# Altium schematic symbol library Atmega328p.SchLib: 13 symbols
Pins are listed as number, name and electrical type; pins without a type are passive.

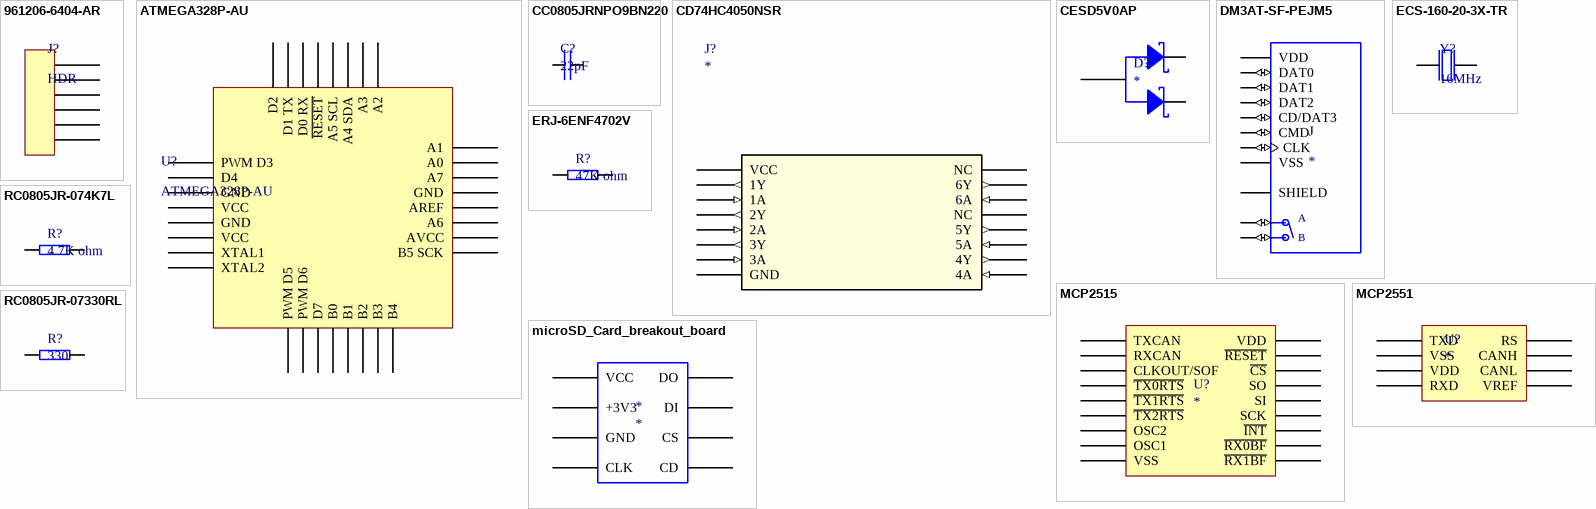
[diagram p0: symbols 961206-6404-AR to RC0805JR-07330RL]

## 961206-6404-AR
designator J?, comment HDR
CONN HEADER VERT 6POS 2.54MM; ComponentLink1Description: datasheet; ComponentLink1URL: https://media.digikey.com/pdf/Data%20Sheets/3M%20PDFs/961_2.54mm_StraightSolderTail_DS.pdf; ComponentLink2Description: digikey; ComponentLink2URL: https://www.digikey.com/product-detail/en/3m/961206-6404-AR/3M9466-06-ND/7105229
footprint 961206-6404-AR (CONN HEADER VERT 6POS 2.54MM)
pins: 1, 2, 3, 4, 5, 6

## ATMEGA328P-AU
designator U?
Date Created: 2/1/2020; Created by: Joseph Park; ComponentLink1Description: digikey; ComponentLink1URL: https://www.mouser.ca/ProductDetail/Microchip-Technology-Atmel/ATMEGA328P-AU?qs=K8BHR703ZXiCmmgp6%2FGNmQ%3D%3D
footprint TQFP80P900X900X120-32N (TQFP, 32-Leads, Body 7.00x7.00mm, Pitch 0.80mm, IPC Medium Density)
pins: 1 PWM D3, 2 D4, 3 GND, 4 VCC, 5 GND, 6 VCC, 7 XTAL1, 8 XTAL2, 9 PWM D5, 10 PWM D6, 11 D7, 12 B0, 13 B1, 14 B2, 15 B3, 16 B4, 17 B5 SCK, 18 AVCC, 19 A6, 20 AREF, 21 GND, 22 A7, 23 A0, 24 A1, 25 A2, 26 A3, 27 A4 SDA, 28 A5 SCL, 29 ~{RESET}, 30 D0 RX, 31 D1 TX, 32 D2

## CC0805JRNPO9BN220
designator C?, comment 22pF
CAP CER 22PF 50V C0G/NPO 0805
footprint C0805
pins: 1, 2

## CD74HC4050NSR
designator J?
High Speed CMOS Logic Hex Non-Inverting Buffers; Datasheet_URL: http://www.ti.com/lit/gpn/CD74HC4050; ComponentLink1Description: mouser; ComponentLink1URL: https://www.mouser.ca/ProductDetail/Texas-Instruments/CD74HC4050NSR?qs=sGAEpiMZZMuiiWkaIwCK2ZiNMAcS1yFohrS7ezbvWvk%3D
footprint NS16
pins: 1 VCC (power), 2 1Y (out), 3 1A (in), 4 2Y (out), 5 2A (in), 6 3Y (out), 7 3A (in), 8 GND (power), 9 4A (in), 10 4Y (out), 11 5A (in), 12 5Y (out), 13 NC, 14 6A (in), 15 6Y (out), 16 NC

## CESD5V0AP
designator D?
Unidirectional 5V 6.2V 13V 13A SOT-23(SOT-23-3) Diodes - ESD RoHS
footprint SOT-23-3
pins: 1, 2, 3

## DM3AT-SF-PEJM5
designator J
SD Card Slot; MF: Hirose; MP: DM3AT-SF-PEJM5; Price: None; SnapEDA_Link: https://www.snapeda.com/parts/DM3AT-SF-PEJM5/Hirose%20Electric%20Co%20Ltd/view-part/1223877/?ref=snap; Availability: Unavailable; Package: None; Value: *; ComponentLink1Description: digikey; ComponentLink1URL: https://www.digikey.com/catalog/en/partgroup/dm3-series/12213
footprint HRS_DM3AT-SF-PEJM5
pins: 1 DAT2 (io), 2 CD/DAT3 (io), 3 CMD (io), 4 VDD (power), 5 CLK (io), 6 VSS (power), 7 DAT0 (io), 8 DAT1 (io), P1 SHIELD, P2 SHIELD, P3 SHIELD, P4 SHIELD, SWA A (io), SWB B (io)

## ECS-160-20-3X-TR
designator Y?, comment 16MHz
CRYSTAL 16.0000MHZ 20PF SMD; ComponentLink1Description: https://www.digikey.ca/en/products/detail/ecs-inc/ECS-160-20-3X-TR/2676606; ComponentLink1URL: https://www.digikey.ca/en/products/detail/ecs-inc/ECS-160-20-3X-TR/2676606
footprint ECS-160-20-3X-TR
pins: 1, 2

## ERJ-6ENF4702V
designator R?, comment 47K ohm
RES SMD 47K OHM 1% 1/8W 0805; ComponentLink1Description: digikey; ComponentLink1URL: https://www.digikey.ca/product-detail/en/panasonic-electronic-components/ERJ-6ENF4702V/P47-0KCTR-ND/1746509
footprint R0805
pins: 1, 2

## MCP2515
designator U?
Stand-Alone CAN Controller with SPI Interface; ComponentLink1Description: datasheet; ComponentLink1URL: http://ww1.microchip.com/downloads/en/DeviceDoc/MCP2515-Stand-Alone-CAN-Controller-with-SPI-20001801J.pdf
footprint SOP18
pins: 1 TXCAN, 2 RXCAN, 3 CLKOUT/SOF, 4 ~{TX0RTS}, 5 ~{TX1RTS}, 6 ~{TX2RTS}, 7 OSC2, 8 OSC1, 9 VSS, 10 ~{RX1BF}, 11 ~{RX0BF}, 12 ~{INT}, 13 SCK, 14 SI, 15 SO, 16 ~{CS}, 17 ~{RESET}, 18 VDD

## MCP2551
designator U?
High Speed Can Transceiver; ComponentLink1Description: daatasheet; ComponentLink1URL: http://ww1.microchip.com/downloads/en/DeviceDoc/20001667G.pdf
footprint SOP8
pins: 1 TXD, 2 VSS, 3 VDD, 4 RXD, 5 VREF, 6 CANL, 7 CANH, 8 RS

## microSD_Card_breakout_board
designator *
footprint Adafruit microSD_breakoutboard
pins: 1 VCC, 2 +3V3, 3 GND, 4 CLK, 5 DO, 6 DI, 7 CS, 8 CD

## RC0805JR-074K7L
designator R?, comment 4.7K ohm
RES SMD 4.7K OHM 5% 1/8W 0805; ComponentLink1Description: digikey; ComponentLink1URL: https://www.digikey.ca/en/products/detail/yageo/RC0805JR-074K7L/728327
footprint R0805
pins: 1, 2

## RC0805JR-07330RL
designator R?, comment 330
RES SMD 330 OHM 5% 1/8W 0805; ComponentLink1Description: digikey; ComponentLink1URL: https://www.digikey.ca/en/products/detail/yageo/RC0805JR-07330RL/731258
footprint R0805
pins: 1, 2